# Altium integrated library CD4511BE.IntLib: 1 symbol
Pins are listed as number, name and electrical type; pins without a type are passive.

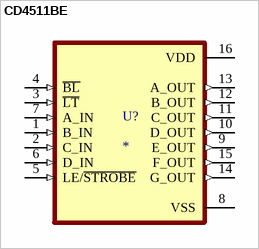
[diagram p0: symbol CD4511BE]

## CD4511BE
designator U?
MP: CD4511BE; Price: None; Availability: Unavailable; Value: *; Package: None
footprint DIP794W45P254L1969H508Q16
pins: 1 B_IN (in), 2 C_IN (in), 3 ~{LT} (in), 4 ~{BL} (in), 5 LE/~{STROBE} (in), 6 D_IN (in), 7 A_IN (in), 8 VSS (power), 9 E_OUT (out), 10 D_OUT (out), 11 C_OUT (out), 12 B_OUT (out), 13 A_OUT (out), 14 G_OUT (out), 15 F_OUT (out), 16 VDD (power)